# Altium footprint library CAP_HCOIN_SG_PAN.PcbLib: 1 footprints
Each footprint in its own frame and in the unit in brackets; x right, y up, seen from the top. Pads: shape width x height; smd on the part's side, far side on the other; paste and mask are expansions set on the pad; w line width, h text height; cw(c..) or ccw(c..) is an arc to the next point about the centre after c.
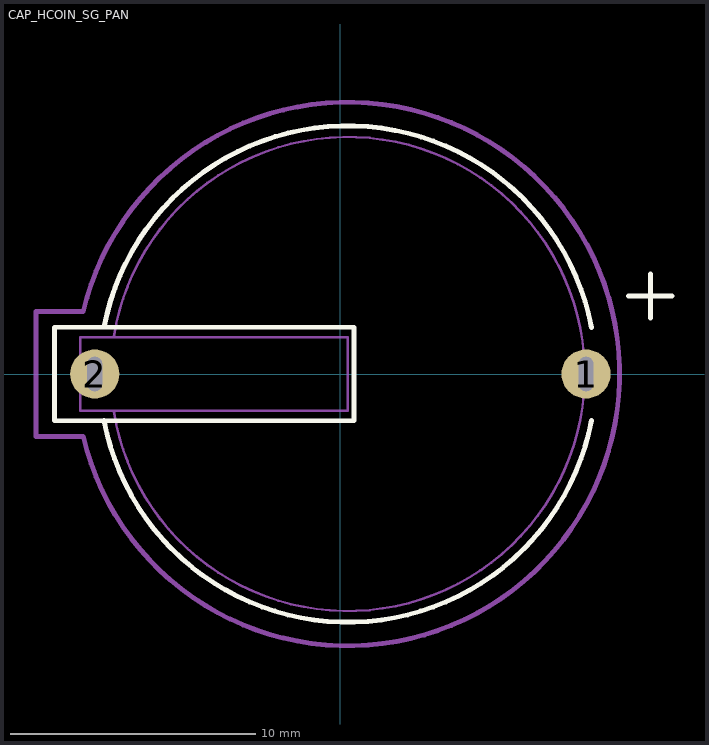
[diagram p0: the footprint, top view; thin cyan lines are the x and y axes]

## CAP_HCOIN_SG_PAN [mm]
pads (2):
  round 2 hole 0.6 slot 1.4 at 90 deg: 1(10,0) 2(-10,0)
Top Overlay:
  lines w0.2: -9.626,-1.885 ccw(c0.3,0) 10.226,-1.885 ; -9.622,1.908 cw(c0.3,0) 10.226,1.885 ; 11.73,3.175 13.508,3.175 ; 12.619,2.286 12.619,4.064 ; -11.638,-1.905 0.554,-1.905 0.554,1.905 -11.638,1.905 -11.638,-1.905
Mechanical 13:
  lines w0.1: -9.233,-1.501 ccw(c0.3,0) -9.233,1.501 ; -10.6,-1.5 0.3,-1.5 0.3,1.5 -10.6,1.5 -10.6,-1.5
Mechanical 15:
  lines w0.2: -10.495,-2.54 -12.4,-2.54 -12.4,2.54 -10.48,2.54 ; -10.473,-2.535 ccw(c0.3,0) -10.472,2.538
3D body: height 6, standoff -3.41, extent -10,-9.5 10,9.5